# Altium schematic symbol library openadsb_rev_a.SCHLIB: 26 symbols
Pins are listed as number, name and electrical type; pins without a type are passive.

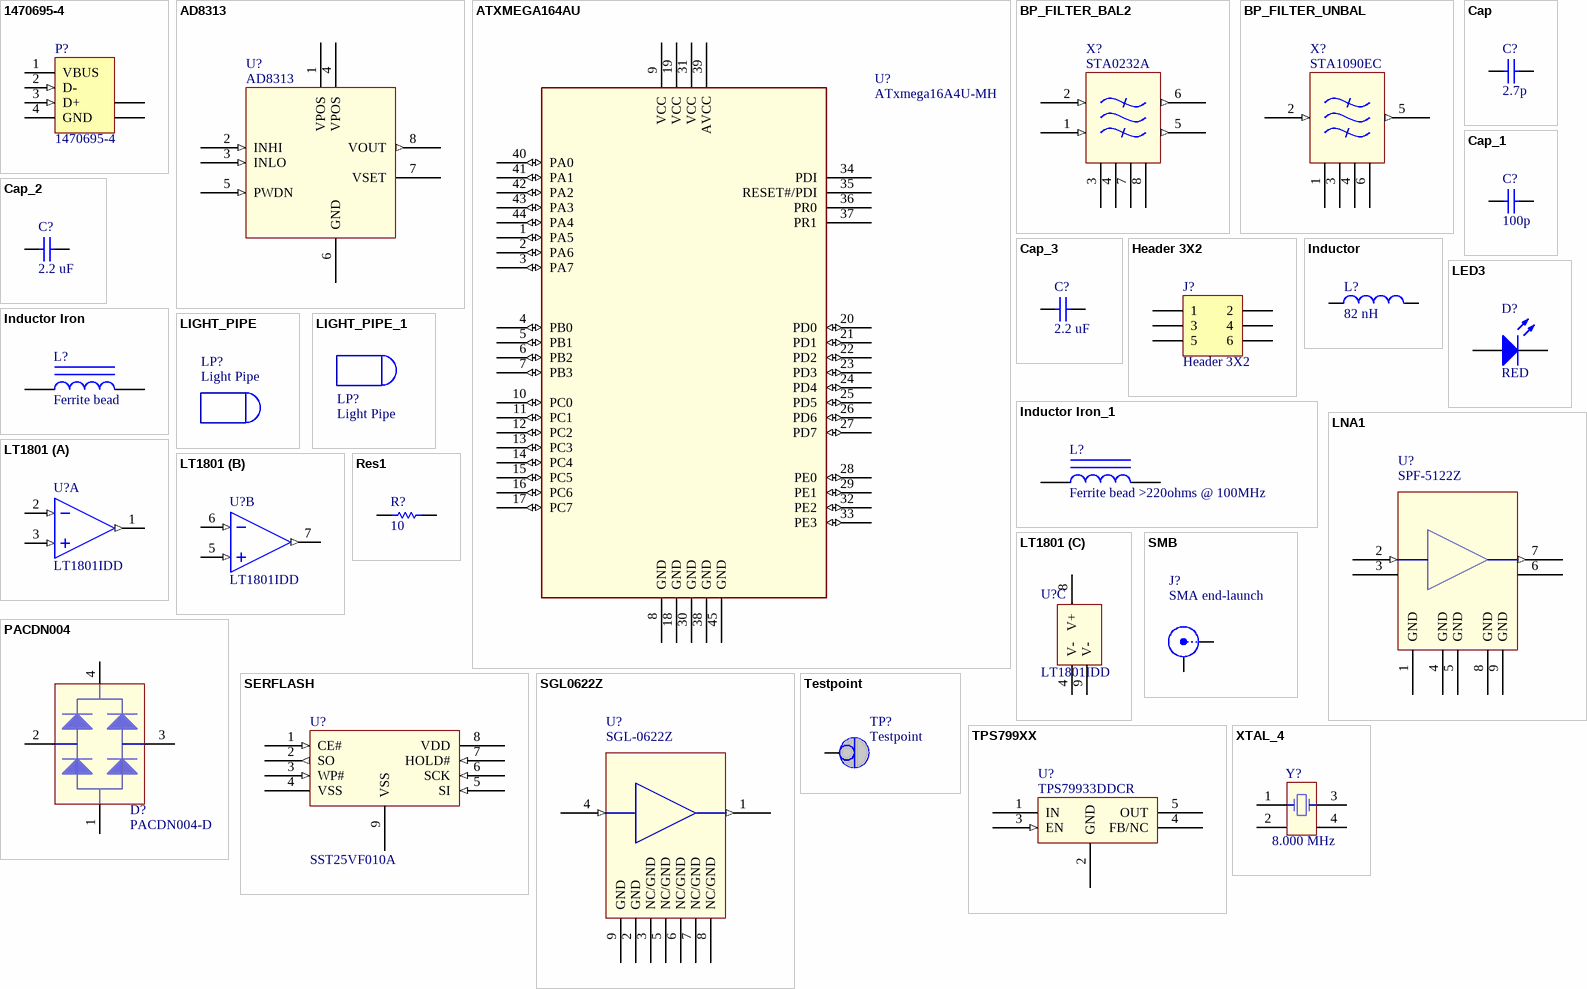
[diagram p0: symbols 1470695-4 to XTAL_4]

## 1470695-4
designator P?
USB 1.1, Right Angle, SMT, A Type, Plug, 4 Position, Black; ContactMaterial: Brass; ContactPlating: Gold (30) over Nickel (50); PCB_Layout: Complies with manufacturer's recommendation.; DrillSize: Corresponds to nominal value.; PanelGround: Without; Published: 15-Jul-2004; DatasheetDocument: 21-Jan-2003; PackageDocument: 21-Jan-2003; PackageReference: 1470695A; Publisher: Altium Limited; HousingMaterial: Thermoplastic; ComponentLink1Description: Manufacturer Link; ComponentLink1URL: http://www.tycoelectronics.com/; ComponentLink2Description: Packaging Specification; ComponentLink2URL: http://ecommas.tycoelectronics.com/commerce/DocumentDelivery/DDEController?Action=showdoc&DocId=Customer+Drawing%7F1470695%7FO%7Fpdf%7FEnglish%7FC_1470695_O.pdf
footprint 1470695A (Connector; USB1.1, Type A, SM; 4 Position; Right Angle)
signal-integrity model USB1.1
pins: 1 VBUS (power) "Power", 2 D- (in) "-DATA", 3 D+ (in) "+DATA", 4 GND (power) "Ground", 5 SHLD "Shield", 6 SHLD "Shield"

## AD8313
designator U?
AD8313 Logarithmic Amp
footprint MSOP-MS8_N (TSOP, 8-Leads, Body 3x3mm, Pitch 0.65mm, IPC Medium Density)
pins: 1 VPOS (power), 2 INHI (in), 3 INLO (in), 4 VPOS (power), 5 PWDN (in), 6 GND (power), 7 VSET, 8 VOUT (out)

## ATXMEGA164AU
designator U?, comment ATxmega16A4U-MH
Manufacturer: Atmel; PartNumber: ATxmega16A4U-MH; Distributor: Arrow
footprint QFN50P700X700-44W3N (QFN, 44-Leads, Body 7x7mm, Pitch 0.5mm, IPC Medium Density)
pins: 1 PA5 (io), 2 PA6 (io), 3 PA7 (io), 4 PB0 (io), 5 PB1 (io), 6 PB2 (io), 7 PB3 (io), 8 GND (power), 9 VCC (power), 10 PC0 (io), 11 PC1 (io), 12 PC2 (io), 13 PC3 (io), 14 PC4 (io), 15 PC5 (io), 16 PC6 (io), 17 PC7 (io), 18 GND (power), 19 VCC (power), 20 PD0 (io), 21 PD1 (io), 22 PD2 (io), 23 PD3 (io), 24 PD4 (io), 25 PD5 (io), 26 PD6 (io), 27 PD7 (io), 28 PE0 (io), 29 PE1 (io), 30 GND (power), 31 VCC (power), 32 PE2 (io), 33 PE3 (io), 34 PDI, 35 RESET#/PDI, 36 PR0, 37 PR1, 38 GND (power), 39 AVCC (power), 40 PA0 (io), 41 PA1 (io), 42 PA2 (io), 43 PA3 (io), 44 PA4 (io), 45 GND (power)

## BP_FILTER_BAL2
designator X?, comment STA0232A
PartNumber: STA0232A
pins: 1 VIN1 (in), 2 VIN2 (in), 3 GND, 4 GND, 5 OUT1 (out), 6 OUT2 (out), 7 GND, 8 GND

## BP_FILTER_UNBAL
designator X?, comment STA1090EC
PartNumber: STA1090EC
footprint STA1090EC
pins: 1 GND, 2 IN (in), 3 GND, 4 GND, 5 OUT (out), 6 GND

## Cap
designator C?, comment 2.7p
Capacitor; Value: 100pF; Published: 8-Jun-2000; LatestRevisionDate: 17-Jul-2002; LatestRevisionNote: Re-released for DXP Platform.; PackageReference: RAD-0.3; Publisher: Altium Limited; PackageDescription: Radial Cap, Thru-Hole; 2 Leads; 0.3 in Pin Spacing
footprint RAD-0.3 (Radial Cap, Thru-Hole; 2 Leads; 0.3 in Pin Spacing)
simulation model CAP (Capacitor)
signal-integrity model Cap
footprint 0805
footprint 0402
pins: 1, 2

## Cap_1
designator C?, comment 100p
Capacitor; Value: 100pF; Published: 8-Jun-2000; LatestRevisionDate: 17-Jul-2002; LatestRevisionNote: Re-released for DXP Platform.; PackageReference: RAD-0.3; Publisher: Altium Limited; PackageDescription: Radial Cap, Thru-Hole; 2 Leads; 0.3 in Pin Spacing
footprint RAD-0.3 (Radial Cap, Thru-Hole; 2 Leads; 0.3 in Pin Spacing)
simulation model CAP (Capacitor)
signal-integrity model Cap
footprint 0402 (Chip Capacitor, Body 1.0x0.5mm, IPC High Density)
pins: 1, 2

## Cap_2
designator C?, comment 2.2 uF
Capacitor; Value: 100pF; Published: 8-Jun-2000; LatestRevisionDate: 17-Jul-2002; LatestRevisionNote: Re-released for DXP Platform.; PackageReference: RAD-0.3; Publisher: Altium Limited; PackageDescription: Radial Cap, Thru-Hole; 2 Leads; 0.3 in Pin Spacing
footprint RAD-0.3 (Radial Cap, Thru-Hole; 2 Leads; 0.3 in Pin Spacing)
simulation model CAP (Capacitor)
signal-integrity model Cap
footprint 1608[0603] (Chip Capacitor, Body 1.6x0.8mm, IPC High Density)
pins: 1, 2

## Cap_3
designator C?, comment 2.2 uF
Capacitor; Value: 100pF; Published: 8-Jun-2000; LatestRevisionDate: 17-Jul-2002; LatestRevisionNote: Re-released for DXP Platform.; PackageReference: RAD-0.3; Publisher: Altium Limited; PackageDescription: Radial Cap, Thru-Hole; 2 Leads; 0.3 in Pin Spacing
footprint RAD-0.3 (Radial Cap, Thru-Hole; 2 Leads; 0.3 in Pin Spacing)
simulation model CAP (Capacitor)
signal-integrity model Cap
footprint 0805
footprint 1608[0603]
pins: 1, 2

## Header 3X2
designator J?
Header, 3-Pin, Dual row; LatestRevisionDate: 17-Jul-2002; LatestRevisionNote: Re-released for DXP Platform.; Publisher: Altium Limited
footprint HDR2X3 (Connector; Header; 3x2 Position)
signal-integrity model Connector
pins: 1, 2, 3, 4, 5, 6

## Inductor
designator L?, comment 82 nH
Inductor; Code_IEC: 1005; Published: 8-Jun-2000; LatestRevisionDate: 29-May-2009; LatestRevisionNote: IPC-7351 Footprint Added.; PackageReference: 0402-A; Publisher: Altium Limited; PackageDescription: Chip Inductor; Code_JEITA: 0402
footprint 1608[0603] (Chip Capacitor, Body 1.6x0.8mm, IPC High Density)
footprint INDC1608L (Chip Inductor, Body 1.6x0.8mm, IPC High Density)
footprint 2029 (Chip Inductor, Body 2.0x1.2mm, IPC High Density)
footprint 0603 (Chip Inductor, Body 0.6x0.3mm, IPC High Density)
footprint INDC3216 (Chip Inductor, Body 3.2x1.6mm, IPC High Density)
footprint INDC4532 (Chip Inductor, Body 4.5x3.2mm, IPC High Density)
simulation model INDUCTOR (Inductor)
signal-integrity model Inductor
footprint 0402
pins: 1, 2

## Inductor Iron
designator L?, comment Ferrite bead
Magnetic-Core Inductor; Published: 24-Mar-1999; LatestRevisionDate: 17-Jul-2002; LatestRevisionNote: Re-released for DXP Platform.; PackageReference: AXIAL-0.9; Publisher: Altium Limited; PackageDescription: Axial Device, Thru-Hole; 2 Leads; 0.9 in Pin Spacing
footprint 0402 (Chip Capacitor, Body 1.0x0.5mm, IPC High Density)
simulation model INDUCTOR (Inductor)
signal-integrity model Inductor Iron
footprint 0402
footprint 1608[0603]
pins: 1, 2

## Inductor Iron_1
designator L?, comment Ferrite bead >220ohms @ 100MHz
Magnetic-Core Inductor; Published: 24-Mar-1999; LatestRevisionDate: 17-Jul-2002; LatestRevisionNote: Re-released for DXP Platform.; PackageReference: AXIAL-0.9; Publisher: Altium Limited; PackageDescription: Axial Device, Thru-Hole; 2 Leads; 0.9 in Pin Spacing
footprint 0402 (Chip Capacitor, Body 1.0x0.5mm, IPC High Density)
simulation model INDUCTOR (Inductor)
signal-integrity model Inductor Iron
footprint 0402
pins: 1, 2

## LED3
designator D?, comment RED
Typical BLUE SiC LED; Published: 8-Jun-2000; LatestRevisionDate: 17-Dec-2003; LatestRevisionNote: PCB Footprint replaced.; DatasheetVersion: 16-Apr-2002; PackageVersion: 16-Apr-2002; PackageReference: 3.5X2.8X1.9; Publisher: Altium Limited; PackageDescription: SM LED; 2 C-Bend Leads; Body 3.5 x 2.8 x 1.9 mm, inc leads (LxWxH typ)
simulation model LED3 (Diode)
signal-integrity model LED
footprint 0603
footprint LED0603 (Chip Capacitor, Body 1.6x0.8mm, IPC High Density)
pins: A, K

## LIGHT_PIPE
designator LP?, comment Light Pipe  (mechanical)
PartNumber: PLP2-215; Manufacturer: Bivar
footprint LIGHTPIPE (Footprint not found)

## LIGHT_PIPE_1
designator LP?, comment Light Pipe  (mechanical)
PartNumber: PLP2-215; Manufacturer: Bivar

## LNA1
designator U?, comment SPF-5122Z
Manufacturer: Sirenza; PartNumber: SPF-5122Z
footprint DFN8_2x2mm
pins: 1 GND (power), 2 IN (in), 3 NC (power), 4 GND (power), 5 GND (power), 6 NC (power), 7 OUT (out), 8 GND (power), 9 GND (power)

## LT1801
designator U?, comment LT1801IDD
Manufacturer: Linear Tech; PartNumber: LT1801IDD
footprint DFN8_3x3mm (Footprint not found)
part A pins: 1 OUT1 (out), 2 IN1- (in), 3 IN1+ (in)
part B pins: 5 IN2+ (in), 6 IN2- (in), 7 OUT2 (out)
part C pins: 4 V- (power), 8 V+ (power), 9 V- (power)

## PACDN004
designator D?, comment PACDN004-D
ESD protection; Manufacturer: On Semi; PartNumber: PACDN004-D
footprint SOT-143-RC4_L (SOT143, 4-Leads, Body 2.9x1.3mm, Pitch 1.9mm, Lead Span 2.4mm, IPC High Density)
pins: 1 GND, 2 CH1, 3 CH1, 4 V

## Res1
designator R?, comment 10
Resistor; Value: 1K; Published: 8-Jun-2000; LatestRevisionDate: 17-Jul-2002; LatestRevisionNote: Re-released for DXP Platform.; PackageReference: AXIAL-0.3; Publisher: Altium Limited; PackageDescription: Axial Device, Thru-Hole; 2 Leads; 0.3 in Pin Spacing
footprint 0402 (Chip Capacitor, Body 1.0x0.5mm, IPC High Density)
simulation model RESISTOR (Resistor)
signal-integrity model Res
pins: 1, 2

## SERFLASH
designator U?, comment SST25VF010A
Manufacturer: SST; PartNumber: SST25VF010A
footprint SOIC8 (Footprint not found)
footprint WSON-8
pins: 1 CE# (in), 2 SO (out), 3 WP# (in), 4 VSS (power), 5 SI (in), 6 SCK (in), 7 HOLD# (in), 8 VDD (power), 9 VSS (power)

## SGL0622Z
designator U?, comment SGL-0622Z
Manufacturer: RFMD; PartNumber: SGL-0622Z
footprint DFN8_2x2mm (Footprint not found)
pins: 1 RFOUT/BIAS (out), 2 GND, 3 NC/GND, 4 RFIN (in), 5 NC/GND, 6 NC/GND, 7 NC/GND, 8 NC/GND, 9 GND (power)

## SMB
designator J?, comment SMA end-launch
SMB Straight Connector; LatestRevisionDate: 17-Jul-2002; LatestRevisionNote: Re-released for DXP Platform.; Publisher: Altium Limited
footprint SMA_ENDLAUNCH
signal-integrity model Connector
pins: 1 X, 2 Y

## Testpoint
designator TP?
footprint Testpoint_via
pins: 1

## TPS799XX
designator U?, comment TPS79933DDCR
Manufacturer: Texas Instruments; PartNumber: TPS79933DDCR
footprint SOT23-5AN (SOT23, 5-Leads, Body 2.9x1.6mm, Pitch 0.95mm, Lead Span 2.8mm, IPC Medium Density)
pins: 1 IN (power), 2 GND (power), 3 EN (in), 4 FB/NC, 5 OUT (power)

## XTAL_4
designator Y?, comment 8.000 MHz
Manufacturer: Abracon; PartNumber: ABM3B-8.000MHZ-B2-T
footprint ABM3C
pins: 1 OSC1, 2 GND, 3 OSC2, 4 OSC1